# Altium schematic symbol library 142-0701-841.SchLib: 1 symbol
Pins are listed as number, name and electrical type; pins without a type are passive.

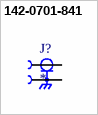
[diagram p0: symbol 142-0701-841]

## 142-0701-841
designator J?
Conn SMA RCP 0Hz to 18GHz 50Ohm Solder ST Edge Mount Gold; MF: EMERSON; MP: 142-0701-841; Availability: In Stock; Check_prices: https://www.snapeda.com/parts/142-0701-841/Emerson/view-part/5571485/?ref=eda; SnapEDA_Link: https://www.snapeda.com/parts/142-0701-841/Emerson/view-part/5571485/?ref=snap; Purchase-URL: https://pricing.snapeda.com/search/part/142-0701-841/?ref=eda; Package: None; Value: *; Price: None
footprint JOHNSON_142-0701-841
pins: 1, G1 2, G2 2, G3 2, G4 2